# EAGLE library part DAC712P (library burr-brown)
16-Bit, DAC
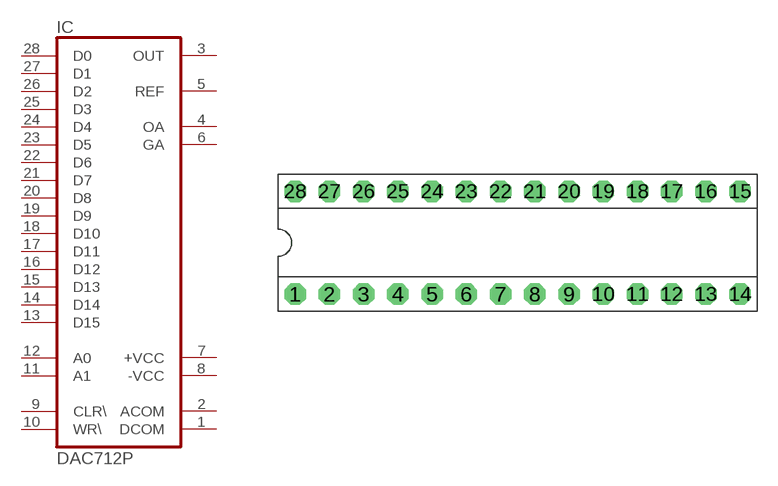
[diagram p185: symbol with the pads of DIP-28/3; footprint DIP-28/3]

Designator prefix IC

## DAC712P  [DIP-28/3]
1  DCOM  pwr
2  ACOM  pwr
3  OUT  out
4  OA  pas
5  REF  out
6  GA  pas
7  +VCC  pwr
8  -VCC  pwr
9  CLR\  in
10  WR\  in
11  A1  in
12  A0  in
13  D15  in
14  D14  in
15  D13  in
16  D12  in
17  D11  in
18  D10  in
19  D9  in
20  D8  in
21  D7  in
22  D6  in
23  D5  in
24  D4  in
25  D3  in
26  D2  in
27  D1  in
28  D0  in

## Footprint DIP-28/3 (pad centres in mm)
drill 0.813 pad 1.6 octagon: 1 -16.51,-3.81; 2 -13.97,-3.81; 3 -11.43,-3.81; 4 -8.89,-3.81; 5 -6.35,-3.81; 6 -3.81,-3.81; 7 -1.27,-3.81; 8 1.27,-3.81; 9 3.81,-3.81; 10 6.35,-3.81; 11 8.89,-3.81; 12 11.43,-3.81; 13 13.97,-3.81; 14 16.51,-3.81; 15 16.51,3.81; 16 13.97,3.81; 17 11.43,3.81; 18 8.89,3.81; 19 6.35,3.81; 20 3.81,3.81; 21 1.27,3.81; 22 -1.27,3.81; 23 -3.81,3.81; 24 -6.35,3.81; 25 -8.89,3.81; 26 -11.43,3.81; 27 -13.97,3.81; 28 -16.51,3.81